# Altium footprint library IR Rectifier - Bridge.PcbLib: 1 footprints
Each footprint in its own frame and in the unit in brackets; x right, y up, seen from the top. Pads: shape width x height; smd on the part's side, far side on the other; paste and mask are expansions set on the pad; w line width, h text height; cw(c..) or ccw(c..) is an arc to the next point about the centre after c.
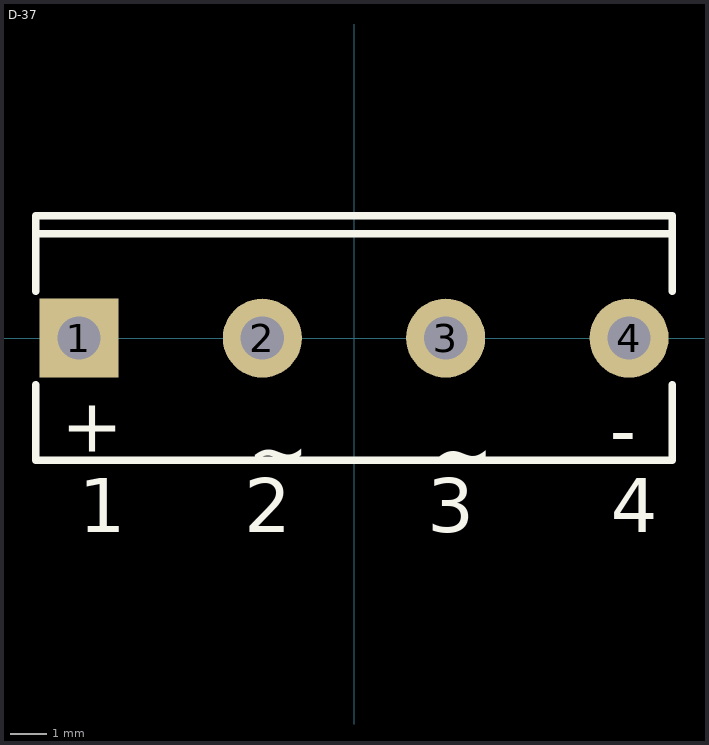
[diagram p0: the footprint, top view; thin cyan lines are the x and y axes]

## D-37 [mm] "SIP; 4 Leads; Body 15 x 17.5 x 6.8 mm (typ); Pitch 5.1 mm"
height 15
pads (4):
  rect 2.2x2.2 hole 1.2: 1(-7.65,0)
  round 2.2 hole 1.2: 2(-2.55,0) 3(2.55,0) 4(7.65,0)
Top Overlay:
  lines w0.2: -8.85,-1.3 -8.85,-3.4 8.85,-3.4 8.85,-1.3 ; -8.85,1.3 -8.85,3.4 8.85,3.4 8.85,1.3 ; -8.85,2.9 8.85,2.9
  text "~" at 2.159,-3.937 h1.5
  text "~" at -2.97,-3.9 h1.5
  text "+" at -8.14,-3.16 h1.5
  text "-" at 7.112,-3.302 h1.5
  text "4" at 7.142,-5.4 h1.5
  text "3" at 2.042,-5.4 h1.5
  text "2" at -3.058,-5.4 h1.5
  text "1" at -7.65,-5.4 h1.5
3D body "User Library-KBL-1.step": height 15.75, standoff -4.5, extent -9.5,-2.125 9.5,4.125